# EAGLE library part 12PIN_2.54 (library connector)
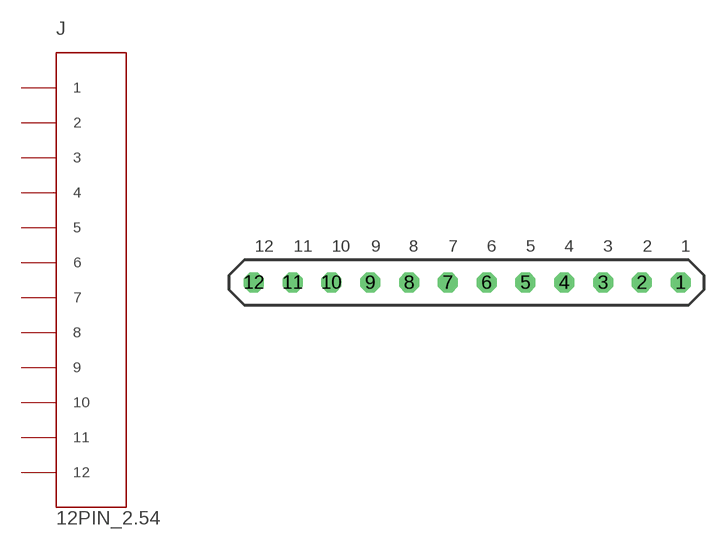
[diagram p10: symbol with the pads of 12PIN_2.54; footprint 12PIN_2.54]

Designator prefix J

## 12PIN_2.54  [12PIN_2.54]
1  1
2  2
3  3
4  4
5  5
6  6
7  7
8  8
9  9
10  10
11  11
12  12

## Footprint 12PIN_2.54 (pad centres in mm)
drill 0.8 octagon: 1 0,0; 2 -2.54,0; 3 -5.08,0; 4 -7.62,0; 5 -10.16,0; 6 -12.7,0; 7 -15.24,0; 8 -17.78,0; 9 -20.32,0; 10 -22.86,0; 11 -25.4,0; 12 -27.94,0